# Altium schematic symbol library POWER_IN_PIN.SchLib: 1 symbol
Pins are listed as number, name and electrical type; pins without a type are passive.

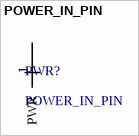
[diagram p0: symbol POWER_IN_PIN]

## POWER_IN_PIN
designator PWR?
Power input pin symbol
pins: 1 PWR (power)